# EAGLE library part OPA2365 (library ICs)
Operational Amplifier, Dual, 50 MHz, 2 Amplifier, 25 V/µs, 2.2V to 5.5V, SOIC
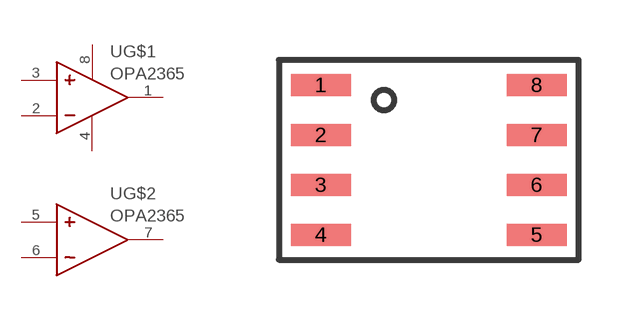
[diagram p112: symbol with the pads of SO8; footprint SO8]

Designator prefix U; gates G$1=OPAMP_SUPPLIES G$2=OPAMP_NOSUPPLIES

## OPA2365 (FARNELL: 1329587; PRICE_PER: 1.681; VALUE: OPA2365)  [SO8]
1  G$1:OUT
2  G$1:-
3  G$1:+
4  G$1:V-
5  G$2:+
6  G$2:-
7  G$2:OUT
8  G$1:V+

## Footprint SO8 (pad centres in mm)
smd 1.5 x 0.55: 1 -2.7,1.875; 2 -2.7,0.625; 3 -2.7,-0.625; 4 -2.7,-1.875; 5 2.7,-1.875; 6 2.7,-0.625; 7 2.7,0.625; 8 2.7,1.875